# Altium schematic symbol library shift_register.SchLib: 13 symbols
Pins are listed as number, name and electrical type; pins without a type are passive.

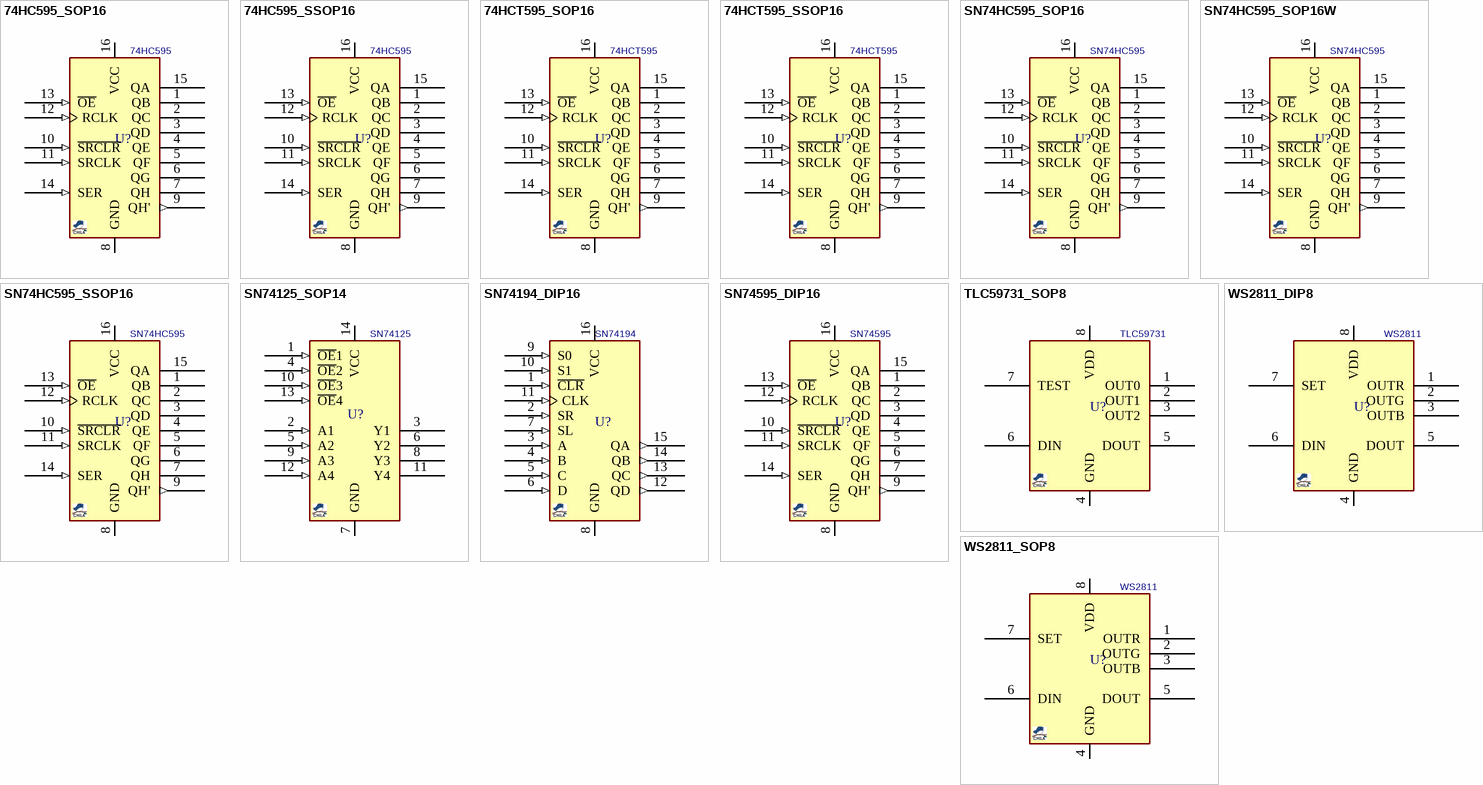
[diagram p0: symbols 74HC595_SOP16 to WS2811_SOP8]

## 74HC595_SOP16
designator U?, comment 74HC595
Shift Register, 8-Bit, with 3-State Output Registers; MANF: DIODES, ON, NXP; MANF_P#: 74HC595S16, 74HC595DR2G, 74HC595D; PARAM2: 2~6VIN; PARAM: 8mA; VALUE: 74HC595
footprint SO_16 (SOP, SOIC, 3.9mm width, 1.27mm pitch,)
pins: 1 QB (hiz), 2 QC (hiz), 3 QD (hiz), 4 QE (hiz), 5 QF (hiz), 6 QG (hiz), 7 QH (hiz), 8 GND (power), 9 QH' (out), 10 ~{SRCLR} (in), 11 SRCLK (in), 12 RCLK (in), 13 ~{OE} (in), 14 SER (in), 15 QA (hiz), 16 VCC (power)

## 74HC595_SSOP16
designator U?, comment 74HC595
Shift Register, 8-Bit, with 3-State Output Registers; MANF: DIODES, ON, NXP; MANF_P#: 74HC595T16, 74HC595DTR2G, 74HC595PW; PARAM2: 2~6VIN; PARAM: 8mA; VALUE: 74HC595
footprint SOG65_16 (PW TSSOP (TI), MO-153-AB (JEDEC), 16Lead, pitch: 0.65mm, 5x4.4x1.2mm)
pins: 1 QB (hiz), 2 QC (hiz), 3 QD (hiz), 4 QE (hiz), 5 QF (hiz), 6 QG (hiz), 7 QH (hiz), 8 GND (power), 9 QH' (out), 10 ~{SRCLR} (in), 11 SRCLK (in), 12 RCLK (in), 13 ~{OE} (in), 14 SER (in), 15 QA (hiz), 16 VCC (power)

## 74HCT595_SOP16
designator U?, comment 74HCT595
Shift Register, 8-Bit, with 3-State Output Registers; MANF: NXP; MANF_P#: 74HCT595D; PARAM2: 4.5~5.5VIN; PARAM: 8mA, -40~125°C; VALUE: 74HCT595
footprint SO_16 (SOP, SOIC, 3.9mm width, 1.27mm pitch,)
pins: 1 QB (hiz), 2 QC (hiz), 3 QD (hiz), 4 QE (hiz), 5 QF (hiz), 6 QG (hiz), 7 QH (hiz), 8 GND (power), 9 QH' (out), 10 ~{SRCLR} (in), 11 SRCLK (in), 12 RCLK (in), 13 ~{OE} (in), 14 SER (in), 15 QA (hiz), 16 VCC (power)

## 74HCT595_SSOP16
designator U?, comment 74HCT595
Shift Register, 8-Bit, with 3-State Output Registers; MANF: NXP; MANF_P#: 74HCT595PW; PARAM2: 4.5~5.5VIN, -40~125°C; PARAM: 8mA; VALUE: 74HCT595
footprint SOG65_16 (PW TSSOP (TI), MO-153-AB (JEDEC), 16Lead, pitch: 0.65mm, 5x4.4x1.2mm)
pins: 1 QB (hiz), 2 QC (hiz), 3 QD (hiz), 4 QE (hiz), 5 QF (hiz), 6 QG (hiz), 7 QH (hiz), 8 GND (power), 9 QH' (out), 10 ~{SRCLR} (in), 11 SRCLK (in), 12 RCLK (in), 13 ~{OE} (in), 14 SER (in), 15 QA (hiz), 16 VCC (power)

## SN74HC595_SOP16
designator U?, comment SN74HC595
Shift Register, 8-Bit, with 3-State Output Registers; MANF: Texas Instruments; MANF_P#: SN74HC595D; PARAM2: 2~6VIN; PARAM: 8mA; VALUE: SN74HC595
footprint SO_16 (SOP, SOIC, 3.9mm width, 1.27mm pitch,)
pins: 1 QB (hiz), 2 QC (hiz), 3 QD (hiz), 4 QE (hiz), 5 QF (hiz), 6 QG (hiz), 7 QH (hiz), 8 GND (power), 9 QH' (out), 10 ~{SRCLR} (in), 11 SRCLK (in), 12 RCLK (in), 13 ~{OE} (in), 14 SER (in), 15 QA (hiz), 16 VCC (power)

## SN74HC595_SOP16W
designator U?, comment SN74HC595
Shift Register, 8-Bit, with 3-State Output Registers; MANF: Texas Instruments; MANF_P#: SN74HC595DW; PARAM2: 2~6VIN; PARAM: 8mA; VALUE: SN74HC595
footprint SO_16_W (SOP, SOIC, 7.5mm width, 1.27mm pitch,)
pins: 1 QB (hiz), 2 QC (hiz), 3 QD (hiz), 4 QE (hiz), 5 QF (hiz), 6 QG (hiz), 7 QH (hiz), 8 GND (power), 9 QH' (out), 10 ~{SRCLR} (in), 11 SRCLK (in), 12 RCLK (in), 13 ~{OE} (in), 14 SER (in), 15 QA (hiz), 16 VCC (power)

## SN74HC595_SSOP16
designator U?, comment SN74HC595
Shift Register, 8-Bit, with 3-State Output Registers; MANF: Texas Instruments; MANF_P#: SN74HC595PW; PARAM2: 2~6VIN; PARAM: 8mA; VALUE: SN74HC595
footprint SOG65_16 (PW TSSOP (TI), MO-153-AB (JEDEC), 16Lead, pitch: 0.65mm, 5x4.4x1.2mm)
pins: 1 QB (hiz), 2 QC (hiz), 3 QD (hiz), 4 QE (hiz), 5 QF (hiz), 6 QG (hiz), 7 QH (hiz), 8 GND (power), 9 QH' (out), 10 ~{SRCLR} (in), 11 SRCLK (in), 12 RCLK (in), 13 ~{OE} (in), 14 SER (in), 15 QA (hiz), 16 VCC (power)

## SN74125_SOP14
designator U?, comment SN74125
Shift Register, 4-Bit; MANF_P#: SN74125; VALUE: SN74125
footprint SO_14 (SOP, SOIC, 3.9mm width, 1.27mm pitch,)
pins: 1 ~{OE}1 (in), 2 A1 (in), 3 Y1 (hiz), 4 ~{OE}2 (in), 5 A2 (in), 6 Y2 (hiz), 7 GND (power), 8 Y3 (hiz), 9 A3 (in), 10 ~{OE}3 (in), 11 Y4 (hiz), 12 A4 (in), 13 ~{OE}4 (in), 14 VCC (power)

## SN74194_DIP16
designator U?, comment SN74194
Shift Register, 4-Bit, Bidirectional Universal; MANF_P#: SN74194N; VALUE: SN74194
footprint DIP_16 (DIP, pitch 2.54mm, 300mil Width)
pins: 1 ~{CLR} (in), 2 SR (in), 3 A (in), 4 B (in), 5 C (in), 6 D (in), 7 SL (in), 8 GND (power), 9 S0 (in), 10 S1 (in), 11 CLK (in), 12 QD (out), 13 QC (out), 14 QB (out), 15 QA (out), 16 VCC (power)

## SN74595_DIP16
designator U?, comment SN74595
Shift Register, 8-Bit, with 3-State Output Registers; PARAM2: 2~6VIN; PARAM: 8mA; MANF_P#: SN74595; VALUE: SN74595
footprint DIP_16 (DIP, pitch 2.54mm, 300mil Width)
pins: 1 QB (hiz), 2 QC (hiz), 3 QD (hiz), 4 QE (hiz), 5 QF (hiz), 6 QG (hiz), 7 QH (hiz), 8 GND (power), 9 QH' (out), 10 ~{SRCLR} (in), 11 SRCLK (in), 12 RCLK (in), 13 ~{OE} (in), 14 SER (in), 15 QA (hiz), 16 VCC (power)

## TLC59731_SOP8
designator U?, comment TLC59731
Signal line 256 Gray level 3-ch Constant current LED drive; MANF: Texas Instruments; MANF_P#: TLC59731D; PARAM2: 3.3/5VDD; PARAM: 50mA, 600Kbps, -40~+125℃; PRICE: 0.8$; VALUE: TLC59731
footprint SO_8 (SOP-8, 5x3.9mm body 1.27mm pitch, SOT96-1, M08A, S8, SOIC8, VO8, MS-012AA(JEDEC), R-8, 8S2, VOG8)
pins: 1 OUT0, 2 OUT1, 3 OUT2, 4 GND, 5 DOUT, 6 DIN, 7 TEST, 8 VDD

## WS2811_DIP8
designator U?, comment WS2811
Signal line 256 Gray level 3-ch Constant current LED drive; MANF: WORLDSEMI; PARAM2: 5VDD; PARAM: 18mA, 400Kpps, -25~+85℃; MANF_P#: WS2811; VALUE: WS2811
footprint DIP_8 (DIP, pitch 2.54mm, 300mil Width)
pins: 1 OUTR, 2 OUTG, 3 OUTB, 4 GND, 5 DOUT, 6 DIN, 7 SET, 8 VDD

## WS2811_SOP8
designator U?, comment WS2811
Signal line 256 Gray level 3-ch Constant current LED drive; MANF: WORLDSEMI; PARAM2: 5VDD; PARAM: 18mA, 400Kpps, -25~+85℃; MANF_P#: WS2811; VALUE: WS2811
footprint SO_8 (SOP-8, 5x3.9mm body 1.27mm pitch, SOT96-1, M08A, S8, SOIC8, VO8, MS-012AA(JEDEC), R-8, 8S2, VOG8)
pins: 1 OUTR, 2 OUTG, 3 OUTB, 4 GND, 5 DOUT, 6 DIN, 7 SET, 8 VDD